# Altium footprint library PcbLib5.2.0.PcbLib: 26 footprints (part 2 of 2)
Each footprint in its own frame and in the unit in brackets; x right, y up, seen from the top. Pads: shape width x height; smd on the part's side, far side on the other; paste and mask are expansions set on the pad; w line width, h text height; cw(c..) or ccw(c..) is an arc to the next point about the centre after c.
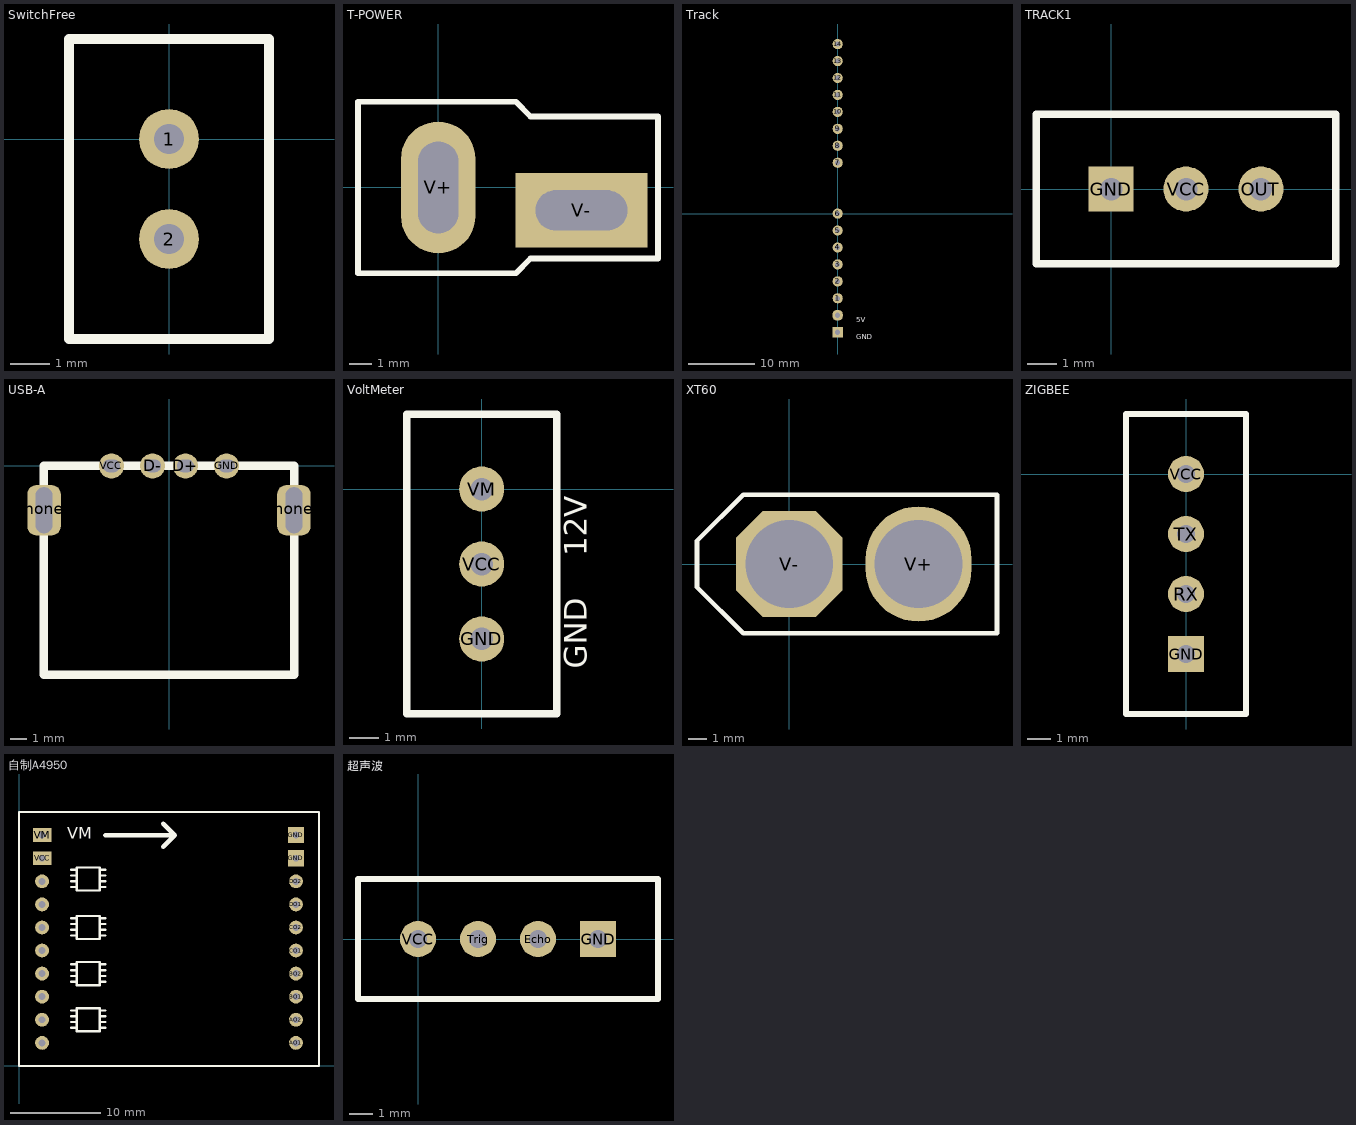
[diagram p1: the footprints below, top view; thin cyan lines are the x and y axes]

## SwitchFree [mil]
pads (2):
  round 60 hole 30: 1(0,0) 2(0,-100)
Top Overlay:
  lines w10: -100,-200 100,-200 100,100 -100,100 -100,-200

## T-POWER [mil] "T插"
pads (2):
  oval 130x230 hole 70 slot 160 at 90 deg: V+(0,0)
  rect 230x130 hole 70 slot 160 at 0 deg: V-(250,-40)
Top Overlay:
  lines w10: -140,-149.61 135.59,-149.61 161.18,-124.02 383.62,-124.02 383.62,124.02 161.18,124.02 135.59,149.61 -140,149.61 -140,-149.61

## Track [mil]
pads (16):
  round 60 hole 30: 1(0,-500) 2(0,-400) 3(0,-300) 4(0,-200) 5(0,-100) 6(0,0) 7(0,300) 8(0,400) 9(0,500) 10(0,600) 11(0,700) 12(0,800) 13(0,900) 14(0,1000)
  rect 60x60 hole 30: GND(0,-700)
  rrect75% 60x60 hole 30: VCC(0,-600)
Top Overlay:
  text "GND" at 110,-740 h30
  text "5V" at 110,-640 h30

## TRACK1 [mil]
pads (3):
  rect 60x60 hole 30: GND(0,0)
  round 60 hole 30: OUT(200,0) VCC(100,0)
Top Overlay:
  lines w10: -100,-100 -100,100 300,100 300,-100 -100,-100

## USB-A [mil]
pads (6):
  round 60 hole 30 slot 40 at 0 deg: D+(39.37,0) D-(-39.37,0) GND(137.8,0) VCC(-137.8,0)
  rrect50% 80x120 hole 110 slot 40 at 0 deg: none(-299.21,-106.3) none(299.21,-106.3)
Top Overlay:
  lines w20: -300,-500 300,-500 300,0 -300,0 -300,-500

## VoltMeter [mil]
pads (3):
  round 60 hole 30: GND(0,-200) VCC(0,-100) VM(0,0)
Top Overlay:
  lines w10: -100,-300 -100,100 100,100 100,-300 -100,-300
  text "12V" at 140,-90 h30
  text "GND" at 140,-240 h30

## XT60 [mil]
pads (2):
  oval 230x250 hole 190: V+(280,0)
  oct 230x230 hole 190: V-(0,0)
Top Overlay:
  lines w10: -100,150 450,150 450,-150 -100,-150 -200,-50 -200,50 -100,150 ; -100,150 -100,150

## ZIGBEE [mil]
pads (4):
  rect 60x60 hole 30: GND(0,-300)
  round 60 hole 30: RX(0,-200) TX(0,-100) VCC(0,0)
Top Overlay:
  lines w10: -100,-400 100,-400 100,100 -100,100 -100,-400

## 自制A4950 [mil]
pads (20):
  round 60 hole 30: AIN1(100,100) AIN2(100,200) AO1(1200,100) AO2(1200,200) BIN1(100,300) BIN2(100,400) BO1(1200,300) BO2(1200,400) CIN1(100,500) CIN2(100,600) CO1(1200,500) CO2(1200,600) DIN1(100,700) DIN2(100,800) DO1(1200,700) DO2(1200,800)
  rect 70x70 hole 30: GND(1200,900) GND(1200,1000)
  rect 80x60 hole 30: VCC(100,900) VM(100,1000)
Top Overlay:
  lines w10: 225,165 250,165 ; 225,190 250,190 ; 225,215 250,215 ; 225,240 250,240 ; 225,365 250,365 ; 225,390 250,390 ; 225,415 250,415 ; 225,440 250,440 ; 225,565 250,565 ; 225,590 250,590 ; 225,615 250,615 ; 225,640 250,640 ; 225,775 250,775 ; 225,800 250,800 ; 225,825 250,825 ; 225,850 250,850 ; 350,165 375,165 ; 350,190 375,190 ; 350,215 375,215 ; 350,240 375,240 ; 350,365 375,365 ; 350,390 375,390 ; 350,415 375,415 ; 350,440 375,440 ; 350,565 375,565 ; 350,590 375,590 ; 350,615 375,615 ; 350,640 375,640 ; 350,775 375,775 ; 350,800 375,800 ; 350,825 375,825 ; 350,850 375,850 ; 0,0 0,1100 1300,1100 1300,0 0,0 ; 250,150 250,250 350,250 350,150 250,150 ; 250,350 250,450 350,450 350,350 250,350 ; 250,550 250,650 350,650 350,550 250,550 ; 250,760 250,860 350,860 350,760 250,760
  lines w20: 375,1000 675,1000 ; 625,950 675,1000 ; 625,1050 675,1000
  text "VM" at 210,985 h50

## 超声波 [mil]
pads (4):
  round 60 hole 30: Echo(200,0) Trig(100,0) VCC(0,0)
  rect 60x60 hole 30: GND(300,0)
Top Overlay:
  lines w10: -100,-100 -100,100 400,100 400,-100 -100,-100